# Altium schematic symbol library AD7380-4BCPZ.SchLib: 1 symbol
Pins are listed as number, name and electrical type; pins without a type are passive.

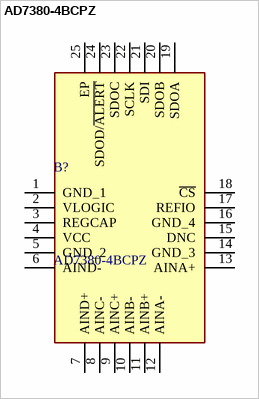
[diagram p0: symbol AD7380-4BCPZ]

## AD7380-4BCPZ
designator B?
Manufacturer_Name: Analog Devices; Geometry.Height: 0.6mm; Mouser Part Number: 584-AD7380-4BCPZ; Mouser Price/Stock: https://www.mouser.co.uk/ProductDetail/Analog-Devices/AD7380-4BCPZ?qs=pUKx8fyJudDRIFEK2AiXQg%3D%3D; Manufacturer_Part_Number: AD7380-4BCPZ; Description: AD7380-4BCPZ; Datasheet Link: https://www.mouser.de/datasheet/2/609/ad7380_4-2821747.pdf
footprint QFN50P400X400X60-25N-D
pins: 1 GND_1, 2 VLOGIC, 3 REGCAP, 4 VCC, 5 GND_2, 6 AIND-, 7 AIND+, 8 AINC-, 9 AINC+, 10 AINB-, 11 AINB+, 12 AINA-, 13 AINA+, 14 GND_3, 15 DNC, 16 GND_4, 17 REFIO, 18 ~{CS}, 19 SDOA, 20 SDOB, 21 SDI, 22 SCLK, 23 SDOC, 24 SDOD/~{ALERT}, 25 EP